# Altium schematic symbol library Flyback.SchLib: 18 symbols
Pins are listed as number, name and electrical type; pins without a type are passive.

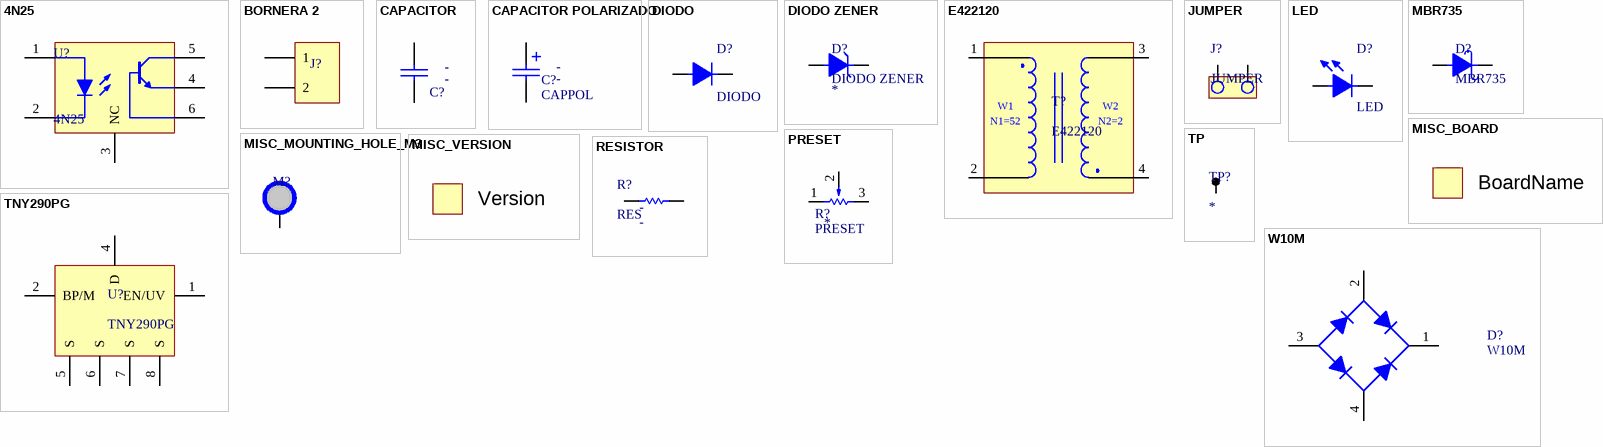
[diagram p0: symbols 4N25 to W10M]

## 4N25
designator U?
OPTOISOLATOR 5KV TRANS W/BASE 6DIP; Manufacturer: Vishay Semiconductor Opto Division; Manufacturer Part Number: 4N25
footprint DIP6
pins: 1 A, 2 K, 3 NC, 4 E, 5 C, 6 B

## BORNERA 2
designator J?  (value not drawn)
BORNERA 2 POLOS; Manufacturer Part Number: -; Manufacturer: -
footprint BORNERA2 (Bornera con Tornillos 5mm separación)
pins: 1, 2

## CAPACITOR
designator C?, comment CAP  (value not drawn)
CAPACITOR; Manufacturer: -; Manufacturer Part Number: -; Voltage Rating: -; Value: -
footprint 0805 (Pasivo 0805)
footprint 1206 (Pasivo 1206)
footprint 0603 (Footprint not found)
footprint CAP200
footprint CAP100
footprint CAP600
footprint CAP300
pins: 1, 2

## CAPACITOR POLARIZADO
designator C?, comment CAPPOL
CAPACITOR POLARIZADO; Manufacturer Part Number: -; Manufacturer: -; Voltage Rating: -; Value: -
footprint CAP100RP
footprint CAP200RP
footprint CAP100RP2 (Footprint not found)
footprint CAP200RP2 (Body Diameter 12.5mm)
footprint CAP300RP
pins: 1, 2
text: +

## DIODO
designator D?
DIODO RECTIFICADOR; Manufacturer Part Number: *; Manufacturer: *
footprint SMAK
footprint 1206K
footprint DO41
footprint SMBK
footprint SMCK
pins: 1, 2

## DIODO ZENER
designator D?
Manufacturer Part Number: *; Manufacturer: *; Voltage: *
footprint SOT23
footprint DO41
pins: 1, 2

## E422120
designator T?
TRANSFORMER; Manufacturer Part Number: -; Manufacturer: -
footprint CARRETE_TRANSFORMADOR
pins: 1, 2, 3, 4
text: W1; W2; N1=52; N2=2

## JUMPER
designator J?
footprint 0805 (Pasivo 0805)
footprint JUMPER2
pins: 1, 2

## LED
designator D?
DIODO LED; Manufacturer Part Number: *; Manufacturer: *
footprint 0805 (Chip Resistor, 2-Leads, Body 0,8"x0,5" - 2,0x1,3mm, IPC High Density)
footprint LED3
footprint LED5
pins: 1, 2

## MBR735
designator D?
DIODO SCHOTTKY 7.5A 35V; Manufacturer: onsemi; Manufacturer Part Number: MBR735
footprint MBR735
pins: 1, 3

## MISC_BOARD
designator B?, comment Name: BoardName  (hidden comment: Board Name)  (no BOM)
footprint MISC_BOARD

## MISC_MOUNTING_HOLE_M3
designator M?, comment Mounting Hole  (value not drawn)  (no BOM)
MOUNTING HOLE M2.5
footprint MISC_MOUNTING_HOLE_M3
pins: 1

## MISC_VERSION
designator V?, comment PCB Version  (value not drawn)  (no BOM)
Version: Version
footprint MISC_VERSION

## PRESET
designator R?
Manufacturer Part Number: *; Manufacturer: *; Value: *
footprint PRESET H
footprint PRESET V
pins: 1, 2, 3

## RESISTOR
designator R?, comment RES
RESISTOR; Manufacturer Part Number: -; Manufacturer: -; Power: -; Value: -
footprint 0805 (Chip Resistor, 2-Leads, Body 0,8"x0,5" - 2,0x1,3mm, IPC High Density)
footprint RES400
footprint RES100
footprint RES300
footprint 1206 (Pasivo 1206)
footprint RES500
footprint RES600
footprint RES1200
footprint RES_METAL_FILM_1/8W
footprint RES_METAL_FILM_2W
footprint RES_METAL_FILM_1W
pins: 1, 2

## TNY290PG
designator U?
IC OFFLINE SWITCH FLYBACK 8DIP; Manufacturer: Power Integrations; Manufacturer Part Number: TNY290PG
footprint DIP_290PG_PWI
pins: 1 EN/UV, 2 BP/M, 4 D, 5 S, 6 S, 7 S, 8 S

## TP
designator TP?
TESTPOINT
footprint TPSMD
footprint TPTH
pins: 1

## W10M
designator D?
PUENTE DE DIODOS; Manufacturer: GeneSiC Semiconductor; Manufacturer Part Number: W10M
footprint PUENTE - W10M
pins: 1 V+, 2 AC, 3 V-, 4 AC